# EAGLE library part MP6002 (library MP6002)
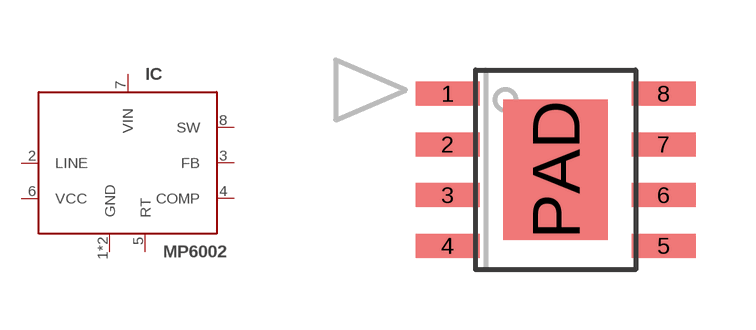
[diagram p0: symbol with the pads of SOIC8E; footprint SOIC8E]

Designator prefix IC

## MP6002DN (MARK: MP6002DN; MF: Monolithic Power; MPN: MP6002DN)  [SOIC8E]
1  GND
2  LINE
3  FB
4  COMP
5  RT
6  VCC
7  VIN
8  SW
PAD  GND

## Footprint SOIC8E (pad centres in mm)
smd 1.6 x 0.6: 1 -2.7,1.905; 2 -2.7,0.635; 3 -2.7,-0.635; 4 -2.7,-1.905; 5 2.7,-1.905; 6 2.7,-0.635; 7 2.7,0.635; 8 2.7,1.905
smd 2.62 x 3.51: PAD 0,0